# Altium schematic symbol library DMN2230UQ-7.SchLib: 2 symbols
Pins are listed as number, name and electrical type; pins without a type are passive.

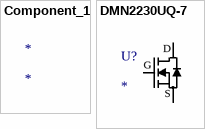
[diagram p0: symbols Component_1 to DMN2230UQ-7]

## Component_1
designator *

## DMN2230UQ-7
designator U?
No Description Available; Mfr_Name: Diodes Inc
footprint DMN2230UQ_DIO
pins: 1 D, 2 G, 3 S